# Altium schematic symbol library sensors.SchLib: 1 symbol
Pins are listed as number, name and electrical type; pins without a type are passive.

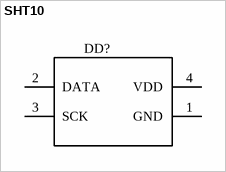
[diagram p0: symbol SHT10]

## SHT10
designator DD?  (value not drawn)
Temp and hum sensor; PartNumber: SHT10; Supplier: Terraelectronica; Unit Price: 998; WebLink: https://www.terraelectronica.ru/product/325109
footprint SHT1x
pins: 1 GND, 2 DATA, 3 SCK, 4 VDD